# EAGLE library part ATARI_ACSI_CON (library Custom)
SUB-D
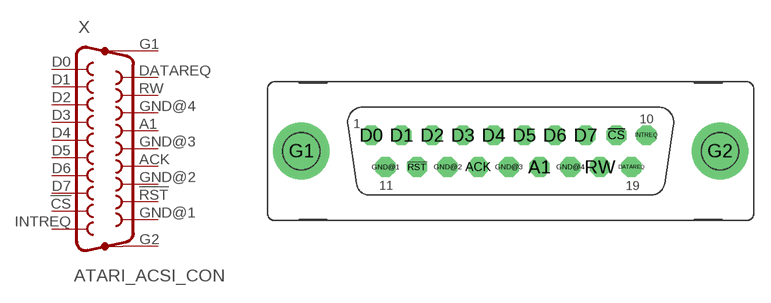
[diagram p43: symbol with the pads of ACSI_CON; footprint ACSI_CON]

Designator prefix X

## ATARI_ACSI_CON (OC_FARNELL: unknown; OC_NEWARK: unknown)  [ACSI_CON]
!CS  !CS  pas
!RST  !RST  pas
A1  A1  pas
ACK  ACK  pas
D0  D0  pas
D1  D1  pas
D2  D2  pas
D3  D3  pas
D4  D4  pas
D5  D5  pas
D6  D6  pas
D7  D7  pas
DATAREQ  DATAREQ  pas
G1  G1  pas
G2  G2  pas
GND@1  GND  pas
GND@2  GND  pas
GND@3  GND  pas
GND@4  GND  pas
INTREQ  INTREQ  pas
RW  RW  pas

## Footprint ACSI_CON (pad centres in mm)
SUB-D
drill 1.016 pad 1.778 octagon: !CS 9.601,1.422; !RST -8.23,-1.422; A1 2.743,-1.422; ACK -2.743,-1.422; D0 -12.306,1.422; D1 -9.601,1.422; D2 -6.858,1.422; D3 -4.115,1.422; D4 -1.372,1.422; D5 1.372,1.422; D6 4.115,1.422; D7 6.858,1.422; DATAREQ 10.951,-1.435; GND@1 -11.036,-1.435; GND@2 -5.486,-1.422; GND@3 0,-1.422; GND@4 5.486,-1.422; INTREQ 12.3,1.422; RW 8.15,-1.422
drill 3.302 pad 5.08: G1 -18.567,0; G2 18.885,0